# Altium schematic symbol library RES,100R,5%,0.25W,Axial,Thru.Schlib: 1 symbol
Pins are listed as number, name and electrical type; pins without a type are passive.

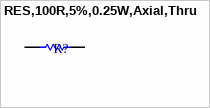
[diagram p0: symbol RES,100R,5%,0.25W,Axial,Thru]

## RES,100R,5%,0.25W,Axial,Thru
designator R?
pins: 1, 2